# Altium footprint library Kemet.PcbLib: 32 footprints (part 1 of 2)
Each footprint in its own frame and in the unit in brackets; x right, y up, seen from the top. Pads: shape width x height; smd on the part's side, far side on the other; paste and mask are expansions set on the pad; w line width, h text height; cw(c..) or ccw(c..) is an arc to the next point about the centre after c.
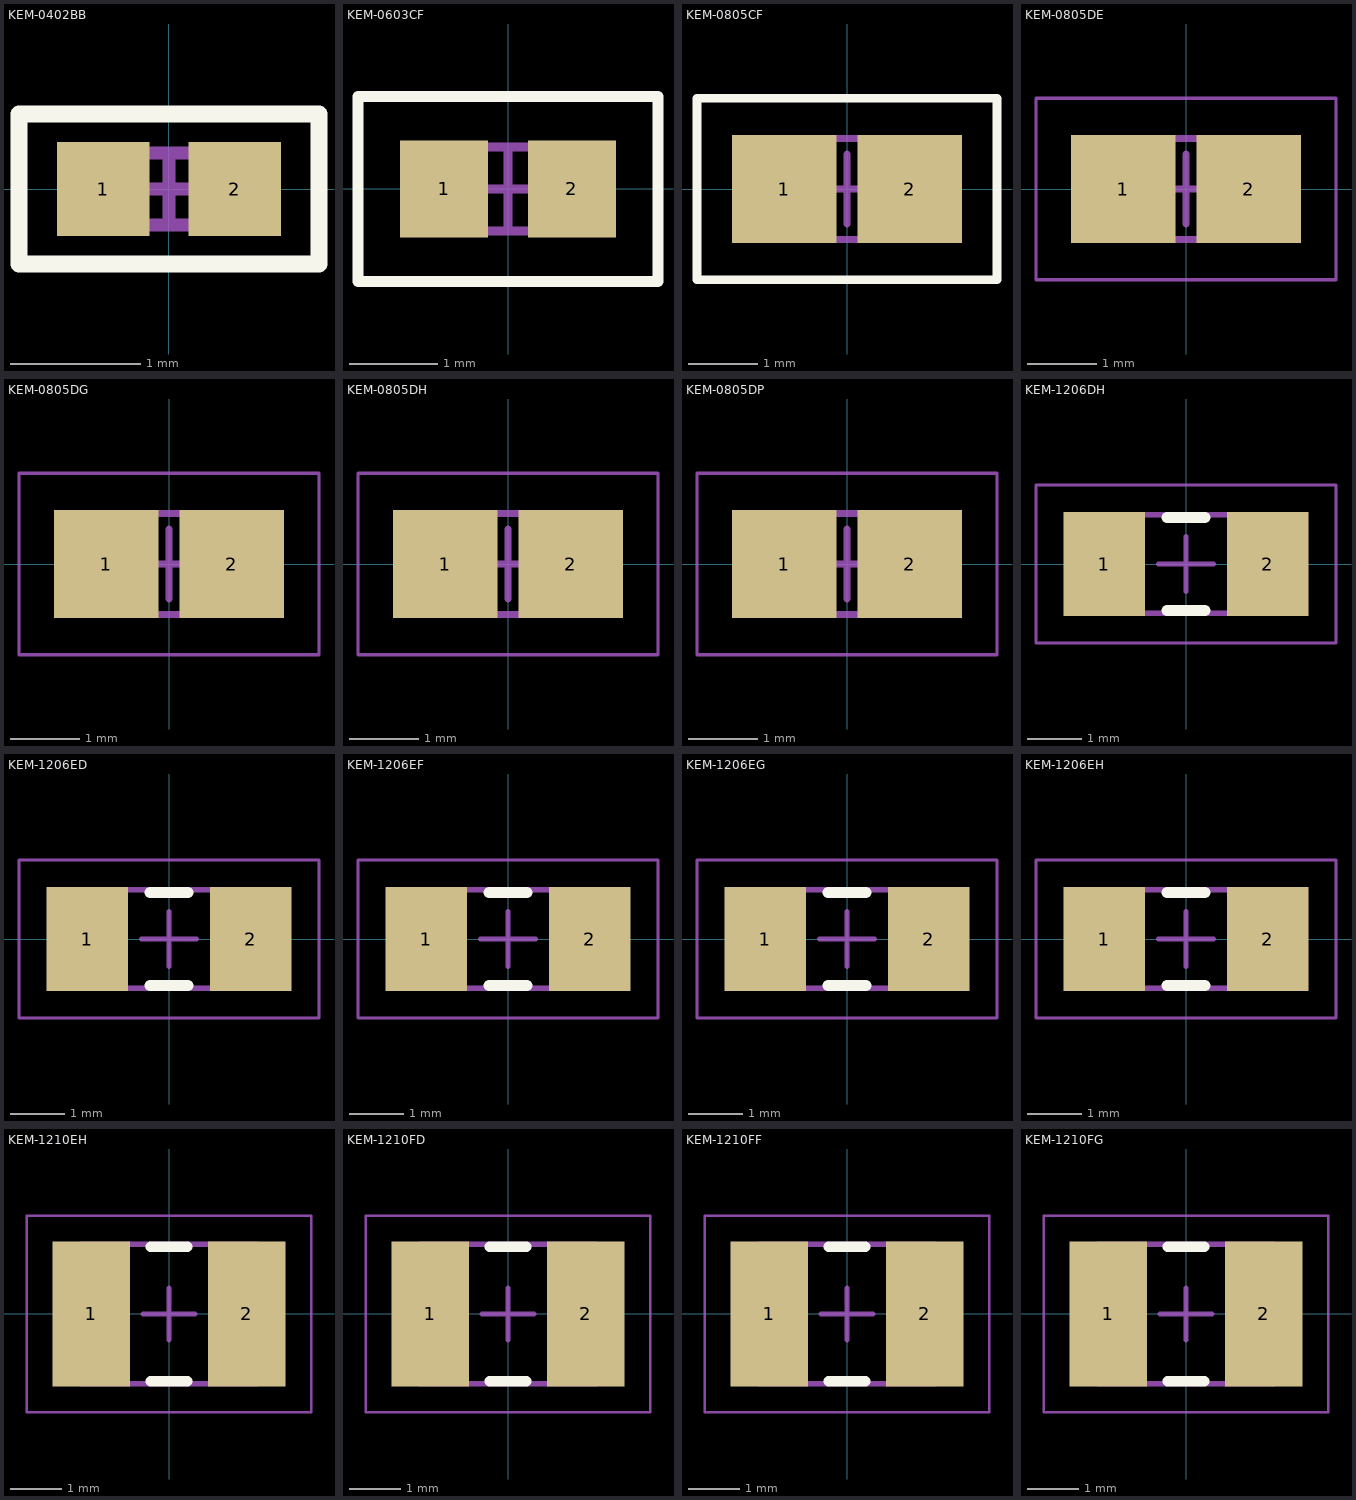
[diagram p0: the footprints below, top view; thin cyan lines are the x and y axes]

## KEM-0402BB [mm] "Chip Capacitor, 2-Leads, Body 1.00x0.50mm, IPC Low Density"
height 0.55
pads (2):
  rect 0.71x0.72 smd: 1(-0.505,0) 2(0.505,0)
Top Overlay:
  lines w0.127: -1.15,-0.575 1.15,-0.575 1.15,0.575 -1.15,0.575 -1.15,-0.575
Top Assembly:
  lines w0.1: -0.525,-0.275 -0.525,0.275 0.525,0.275 0.525,-0.275 -0.525,-0.275
Top Courtyard:
  lines w0.05: -1.15,-0.575 -1.15,0.575 1.15,0.575 1.15,-0.575 -1.15,-0.575
  lines w0.1: -0.275,0 0.275,0 ; 0,-0.275 0,0.275
3D body: height 0.55, standoff 0, extent 0.225,-0.275 0.525,0.275
3D body: height 0.55, standoff 0, extent -0.225,-0.275 0.225,0.275
3D body: height 0.55, standoff 0, extent -0.525,-0.275 -0.225,0.275

## KEM-0603CF [mm] "Chip Capacitor, 2-Leads, Body 1.60x0.80mm, IPC Low Density"
height 0.87
pads (2):
  rect 1x1.1 smd: 1(-0.725,0) 2(0.725,0)
Top Overlay:
  lines w0.127: -1.7,-1.05 1.7,-1.05 1.7,1.05 -1.7,1.05 -1.7,-1.05
Mechanical 13:
  lines w0.1: -0.875,-0.475 0.875,-0.475 0.875,0.475 -0.875,0.475 -0.875,-0.475
Mechanical 15:
  lines w0.05: -1.7,-1.05 -1.7,1.05 1.7,1.05 1.7,-1.05 -1.7,-1.05
  lines w0.1: -0.475,0 0.475,0 ; 0,-0.475 0,0.475
3D body: height 0.87, standoff 0, extent 0.525,-0.475 0.875,0.475
3D body: height 0.87, standoff 0, extent -0.875,-0.475 -0.525,0.475
3D body: height 0.87, standoff 0, extent -0.525,-0.475 0.525,0.475

## KEM-0805CF [mm] "Chip Capacitor, 2-Leads, Body 2.00x1.25mm, IPC Low Density"
height 0.87
pads (2):
  rect 1.5x1.55 smd: 1(-0.9,0) 2(0.9,0)
Top Overlay:
  lines w0.127: -2.15,-1.3 2.15,-1.3 2.15,1.3 -2.15,1.3 -2.15,-1.3
Mechanical 13:
  lines w0.1: -1.1,-0.725 1.1,-0.725 1.1,0.725 -1.1,0.725 -1.1,-0.725
Mechanical 15:
  lines w0.05: -2.15,-1.3 -2.15,1.3 2.15,1.3 2.15,-1.3 -2.15,-1.3
  lines w0.1: -0.5,0 0.5,0 ; 0,-0.5 0,0.5
3D body: height 0.87, standoff 0, extent 0.6,-0.725 1.1,0.725
3D body: height 0.87, standoff 0, extent -1.1,-0.725 -0.6,0.725
3D body: height 0.87, standoff 0, extent -0.6,-0.725 0.6,0.725

## KEM-0805DE [mm] "Chip Capacitor, 2-Leads, Body 2.00x1.25mm, IPC Low Density"
height 1.1
pads (2):
  rect 1.5x1.55 smd: 1(-0.9,0) 2(0.9,0)
Mechanical 13:
  lines w0.1: -1.1,-0.725 1.1,-0.725 1.1,0.725 -1.1,0.725 -1.1,-0.725
Mechanical 15:
  lines w0.05: -2.15,-1.3 2.15,-1.3 2.15,1.3 -2.15,1.3 -2.15,-1.3
  lines w0.1: -0.5,0 0.5,0 ; 0,-0.5 0,0.5
3D body: height 1.1, standoff 0, extent 0.6,-0.725 1.1,0.725
3D body: height 1.1, standoff 0, extent -1.1,-0.725 -0.6,0.725
3D body: height 1.1, standoff 0, extent -0.6,-0.725 0.6,0.725

## KEM-0805DG [mm] "Chip Capacitor, 2-Leads, Body 2.00x1.25mm, IPC Low Density"
height 1.4
pads (2):
  rect 1.5x1.55 smd: 1(-0.9,0) 2(0.9,0)
Mechanical 13:
  lines w0.1: -1.1,-0.725 -1.1,0.725 1.1,0.725 1.1,-0.725 -1.1,-0.725
Mechanical 15:
  lines w0.05: -2.15,-1.3 -2.15,1.3 2.15,1.3 2.15,-1.3 -2.15,-1.3
  lines w0.1: -0.5,0 0.5,0 ; 0,-0.5 0,0.5
3D body: height 1.4, standoff 0, extent -0.6,-0.725 0.6,0.725
3D body: height 1.4, standoff 0, extent -1.1,-0.725 -0.6,0.725
3D body: height 1.4, standoff 0, extent 0.6,-0.725 1.1,0.725

## KEM-0805DH [mm] "Chip Capacitor, 2-Leads, Body 2.00x1.25mm, IPC Low Density"
height 1.45
pads (2):
  rect 1.5x1.55 smd: 1(-0.9,0) 2(0.9,0)
Mechanical 13:
  lines w0.1: -1.1,-0.725 -1.1,0.725 1.1,0.725 1.1,-0.725 -1.1,-0.725
Mechanical 15:
  lines w0.05: -2.15,-1.3 -2.15,1.3 2.15,1.3 2.15,-1.3 -2.15,-1.3
  lines w0.1: -0.5,0 0.5,0 ; 0,-0.5 0,0.5
3D body: height 1.45, standoff 0, extent -0.6,-0.725 0.6,0.725
3D body: height 1.45, standoff 0, extent -1.1,-0.725 -0.6,0.725
3D body: height 1.45, standoff 0, extent 0.6,-0.725 1.1,0.725

## KEM-0805DP [mm] "Chip Capacitor, 2-Leads, Body 2.00x1.25mm, IPC Low Density"
height 1
pads (2):
  rect 1.5x1.55 smd: 1(-0.9,0) 2(0.9,0)
Mechanical 13:
  lines w0.1: -1.1,-0.725 1.1,-0.725 1.1,0.725 -1.1,0.725 -1.1,-0.725
Mechanical 15:
  lines w0.05: -2.15,-1.3 2.15,-1.3 2.15,1.3 -2.15,1.3 -2.15,-1.3
  lines w0.1: -0.5,0 0.5,0 ; 0,-0.5 0,0.5
3D body: height 1, standoff 0, extent 0.6,-0.725 1.1,0.725
3D body: height 1, standoff 0, extent -1.1,-0.725 -0.6,0.725
3D body: height 1, standoff 0, extent -0.6,-0.725 0.6,0.725

## KEM-1206DH [mm] "Chip Capacitor, 2-Leads, Body 3.20x1.60mm, IPC Low Density"
height 1.45
pads (2):
  rect 1.5x1.9 smd: 1(-1.5,0) 2(1.5,0)
Top Overlay:
  lines w0.2: -0.35,-0.85 0.35,-0.85 ; -0.35,0.85 0.35,0.85
Mechanical 13:
  lines w0.1: -1.7,-0.9 -1.7,0.9 1.7,0.9 1.7,-0.9 -1.7,-0.9
Mechanical 15:
  lines w0.05: -2.75,-1.45 -2.75,1.45 2.75,1.45 2.75,-1.45 -2.75,-1.45
  lines w0.1: -0.5,0 0.5,0 ; 0,-0.5 0,0.5
3D body: height 1.45, standoff 0, extent -1.2,-0.9 1.2,0.9
3D body: height 1.45, standoff 0, extent -1.7,-0.9 -1.2,0.9
3D body: height 1.45, standoff 0, extent 1.2,-0.9 1.7,0.9

## KEM-1206ED [mm] "Chip Capacitor, 2-Leads, Body 3.20x1.60mm, IPC Low Density"
height 1.1
pads (2):
  rect 1.5x1.9 smd: 1(-1.5,0) 2(1.5,0)
Top Overlay:
  lines w0.2: -0.35,-0.85 0.35,-0.85 ; -0.35,0.85 0.35,0.85
Mechanical 13:
  lines w0.1: -1.7,-0.9 1.7,-0.9 1.7,0.9 -1.7,0.9 -1.7,-0.9
Mechanical 15:
  lines w0.05: -2.75,-1.45 2.75,-1.45 2.75,1.45 -2.75,1.45 -2.75,-1.45
  lines w0.1: -0.5,0 0.5,0 ; 0,-0.5 0,0.5
3D body: height 1.1, standoff 0, extent 1.2,-0.9 1.7,0.9
3D body: height 1.1, standoff 0, extent -1.7,-0.9 -1.2,0.9
3D body: height 1.1, standoff 0, extent -1.2,-0.9 1.2,0.9

## KEM-1206EF [mm] "Chip Capacitor, 2-Leads, Body 3.20x1.60mm, IPC Low Density"
height 1.35
pads (2):
  rect 1.5x1.9 smd: 1(-1.5,0) 2(1.5,0)
Top Overlay:
  lines w0.2: -0.35,-0.85 0.35,-0.85 ; -0.35,0.85 0.35,0.85
Mechanical 13:
  lines w0.1: -1.7,-0.9 1.7,-0.9 1.7,0.9 -1.7,0.9 -1.7,-0.9
Mechanical 15:
  lines w0.05: -2.75,-1.45 2.75,-1.45 2.75,1.45 -2.75,1.45 -2.75,-1.45
  lines w0.1: -0.5,0 0.5,0 ; 0,-0.5 0,0.5
3D body: height 1.35, standoff 0, extent 1.2,-0.9 1.7,0.9
3D body: height 1.35, standoff 0, extent -1.7,-0.9 -1.2,0.9
3D body: height 1.35, standoff 0, extent -1.2,-0.9 1.2,0.9

## KEM-1206EG [mm] "Chip Capacitor, 2-Leads, Body 3.20x1.60mm, IPC Low Density"
height 1.75
pads (2):
  rect 1.5x1.9 smd: 1(-1.5,0) 2(1.5,0)
Top Overlay:
  lines w0.2: -0.35,-0.85 0.35,-0.85 ; -0.35,0.85 0.35,0.85
Mechanical 13:
  lines w0.1: -1.7,-0.9 -1.7,0.9 1.7,0.9 1.7,-0.9 -1.7,-0.9
Mechanical 15:
  lines w0.05: -2.75,-1.45 -2.75,1.45 2.75,1.45 2.75,-1.45 -2.75,-1.45
  lines w0.1: -0.5,0 0.5,0 ; 0,-0.5 0,0.5
3D body: height 1.75, standoff 0, extent -1.2,-0.9 1.2,0.9
3D body: height 1.75, standoff 0, extent -1.7,-0.9 -1.2,0.9
3D body: height 1.75, standoff 0, extent 1.2,-0.9 1.7,0.9

## KEM-1206EH [mm] "Chip Capacitor, 2-Leads, Body 3.20x1.60mm, IPC Low Density"
height 1.8
pads (2):
  rect 1.5x1.9 smd: 1(-1.5,0) 2(1.5,0)
Top Overlay:
  lines w0.2: -0.35,-0.85 0.35,-0.85 ; -0.35,0.85 0.35,0.85
Mechanical 13:
  lines w0.1: -1.7,-0.9 1.7,-0.9 1.7,0.9 -1.7,0.9 -1.7,-0.9
Mechanical 15:
  lines w0.05: -2.75,-1.45 2.75,-1.45 2.75,1.45 -2.75,1.45 -2.75,-1.45
  lines w0.1: -0.5,0 0.5,0 ; 0,-0.5 0,0.5
3D body: height 1.8, standoff 0, extent 1.2,-0.9 1.7,0.9
3D body: height 1.8, standoff 0, extent -1.7,-0.9 -1.2,0.9
3D body: height 1.8, standoff 0, extent -1.2,-0.9 1.2,0.9

## KEM-1210EH [mm] "Chip Capacitor, 2-Leads, Body 3.20x2.50mm, IPC Low Density"
height 1.8
pads (2):
  rect 1.5x2.8 smd: 1(-1.5,0) 2(1.5,0)
Top Overlay:
  lines w0.2: -0.35,-1.3 0.35,-1.3 ; -0.35,1.3 0.35,1.3
Mechanical 13:
  lines w0.1: -1.7,-1.35 -1.7,1.35 1.7,1.35 1.7,-1.35 -1.7,-1.35
Mechanical 15:
  lines w0.05: -2.75,-1.9 -2.75,1.9 2.75,1.9 2.75,-1.9 -2.75,-1.9
  lines w0.1: -0.5,0 0.5,0 ; 0,-0.5 0,0.5
3D body: height 1.8, standoff 0, extent -1.2,-1.35 1.2,1.35
3D body: height 1.8, standoff 0, extent -1.7,-1.35 -1.2,1.35
3D body: height 1.8, standoff 0, extent 1.2,-1.35 1.7,1.35

## KEM-1210FD [mm] "Chip Capacitor, 2-Leads, Body 3.20x2.50mm, IPC Low Density"
height 1.05
pads (2):
  rect 1.5x2.8 smd: 1(-1.5,0) 2(1.5,0)
Top Overlay:
  lines w0.2: -0.35,-1.3 0.35,-1.3 ; -0.35,1.3 0.35,1.3
Mechanical 13:
  lines w0.1: -1.7,-1.35 1.7,-1.35 1.7,1.35 -1.7,1.35 -1.7,-1.35
Mechanical 15:
  lines w0.05: -2.75,-1.9 2.75,-1.9 2.75,1.9 -2.75,1.9 -2.75,-1.9
  lines w0.1: -0.5,0 0.5,0 ; 0,-0.5 0,0.5
3D body: height 1.05, standoff 0, extent 1.2,-1.35 1.7,1.35
3D body: height 1.05, standoff 0, extent -1.7,-1.35 -1.2,1.35
3D body: height 1.05, standoff 0, extent -1.2,-1.35 1.2,1.35

## KEM-1210FF [mm] "Chip Capacitor, 2-Leads, Body 3.20x2.50mm, IPC Low Density"
height 1.2
pads (2):
  rect 1.5x2.8 smd: 1(-1.5,0) 2(1.5,0)
Top Overlay:
  lines w0.2: -0.35,-1.3 0.35,-1.3 ; -0.35,1.3 0.35,1.3
Mechanical 13:
  lines w0.1: -1.7,-1.35 1.7,-1.35 1.7,1.35 -1.7,1.35 -1.7,-1.35
Mechanical 15:
  lines w0.05: -2.75,-1.9 2.75,-1.9 2.75,1.9 -2.75,1.9 -2.75,-1.9
  lines w0.1: -0.5,0 0.5,0 ; 0,-0.5 0,0.5
3D body: height 1.2, standoff 0, extent 1.2,-1.35 1.7,1.35
3D body: height 1.2, standoff 0, extent -1.7,-1.35 -1.2,1.35
3D body: height 1.2, standoff 0, extent -1.2,-1.35 1.2,1.35

## KEM-1210FG [mm] "Chip Capacitor, 2-Leads, Body 3.20x2.50mm, IPC Low Density"
height 1.4
pads (2):
  rect 1.5x2.8 smd: 1(-1.5,0) 2(1.5,0)
Top Overlay:
  lines w0.2: -0.35,-1.3 0.35,-1.3 ; -0.35,1.3 0.35,1.3
Mechanical 13:
  lines w0.1: -1.7,-1.35 -1.7,1.35 1.7,1.35 1.7,-1.35 -1.7,-1.35
Mechanical 15:
  lines w0.05: -2.75,-1.9 -2.75,1.9 2.75,1.9 2.75,-1.9 -2.75,-1.9
  lines w0.1: -0.5,0 0.5,0 ; 0,-0.5 0,0.5
3D body: height 1.4, standoff 0, extent -1.2,-1.35 1.2,1.35
3D body: height 1.4, standoff 0, extent -1.7,-1.35 -1.2,1.35
3D body: height 1.4, standoff 0, extent 1.2,-1.35 1.7,1.35